# Altium schematic symbol library OSTTC022162.SchLib: 2 symbols
Pins are listed as number, name and electrical type; pins without a type are passive.

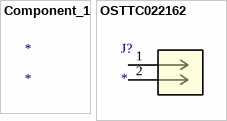
[diagram p0: symbols Component_1 to OSTTC022162]

## Component_1
designator *

## OSTTC022162
designator J?
No Description Available; Mfr_Name: On Shore Technology; RefDes: RefDes; Type: Type
footprint CONN_OSTTC022162_OST
pins: 1, 2